# EAGLE library part CONNECTOR-19--1-TO-19 (library eagle-library-engr-245-s22)
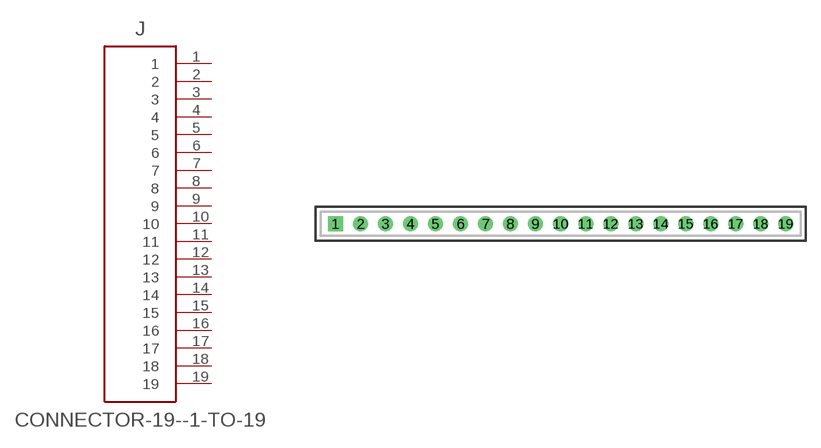
[diagram p12: symbol with the pads of ESQ-119-XX-XX-S; footprint ESQ-119-XX-XX-S]

Designator prefix J

## CONNECTOR-19--1-TO-19  [ESQ-119-XX-XX-S]
1  1
2  2
3  3
4  4
5  5
6  6
7  7
8  8
9  9
10  10
11  11
12  12
13  13
14  14
15  15
16  16
17  17
18  18
19  19

## Footprint ESQ-119-XX-XX-S (pad centres in mm)
drill 1.016 pad 1.524 square: 1 0,0
drill 1.016 pad 1.524: 2 2.54,0; 3 5.08,0; 4 7.62,0; 5 10.16,0; 6 12.7,0; 7 15.24,0; 8 17.78,0; 9 20.32,0; 10 22.86,0; 11 25.4,0; 12 27.94,0; 13 30.48,0; 14 33.02,0; 15 35.56,0; 16 38.1,0; 17 40.64,0; 18 43.18,0; 19 45.72,0